# EAGLE library part TP5046_MODULE (library TP4056_module)
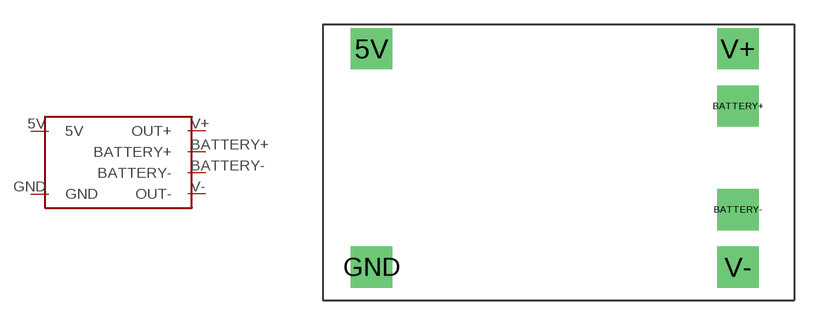
[diagram p0: symbol with the pads of TP4056_MODULE; footprint TP4056_MODULE]

Designator prefix -

## TP5046_MODULE  [TP4056_MODULE]
5V  5V
BATTERY+  BATTERY+
BATTERY-  BATTERY-
GND  GND
V+  OUT+
V-  OUT-

## Footprint TP4056_MODULE (pad centres in mm)
drill 1.27 pad 2.54 square: 5V 0,0; BATTERY+ 22.54,-3.54; BATTERY- 22.54,-9.92; GND 0,-13.46; V+ 22.54,0; V- 22.54,-13.46